# Altium footprint library MAX2623EUA+T.PcbLib: 1 footprints
Each footprint in its own frame and in the unit in brackets; x right, y up, seen from the top. Pads: shape width x height; smd on the part's side, far side on the other; paste and mask are expansions set on the pad; w line width, h text height; cw(c..) or ccw(c..) is an arc to the next point about the centre after c.
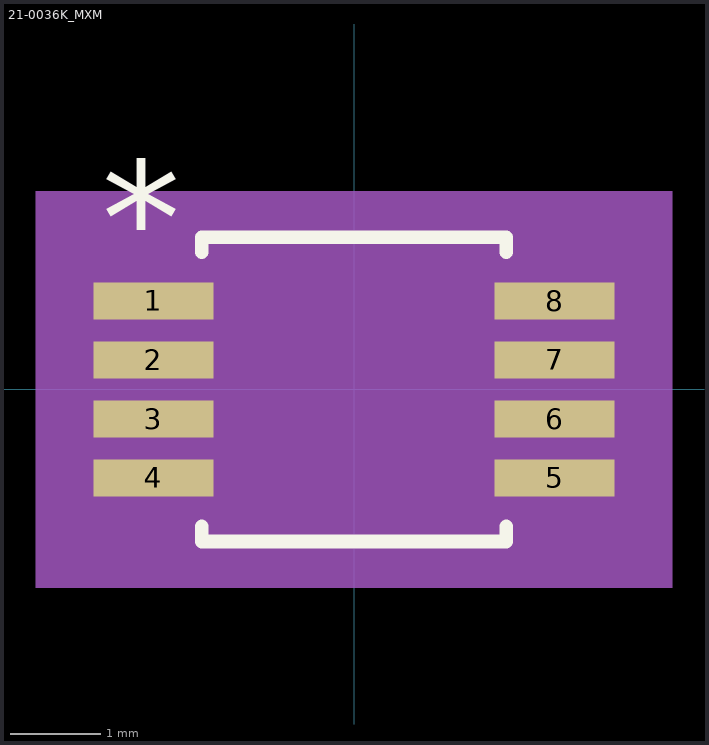
[diagram p0: the footprint, top view; thin cyan lines are the x and y axes]

## 21-0036K_MXM [mil]
pads (8):
  rect 52x16 smd paste+0 mask+0: 1(-87,38.4) 2(-87,12.8) 3(-87,-12.8) 4(-87,-38.4) 5(87,-38.4) 6(87,-12.8) 7(87,12.8) 8(87,38.4)
Top Overlay:
  lines w6: -66,-59.5 -66,-66 66,-66 66,-59.5 ; -66,59.5 -66,66 66,66 66,59.5
  text "*" at -109.5,49.4 h50
Mechanical 5:
  region: 138,-86 -138,-86 -138,86 138,86
Mechanical 13:
  lines w0: -12,61 ccw(c0,61) 12,61
  lines w1: -99,-45.4 -61,-45.4 -61,-31.4 -99,-31.4 -99,-45.4 ; -99,-19.8 -61,-19.8 -61,-5.8 -99,-5.8 -99,-19.8 ; -99,5.8 -61,5.8 -61,19.8 -99,19.8 -99,5.8 ; -99,31.4 -61,31.4 -61,45.4 -99,45.4 -99,31.4 ; -61,-61 -61,61 61,61 61,-61 -61,-61 ; 61,-45.4 99,-45.4 99,-31.4 61,-31.4 61,-45.4 ; 61,-19.8 99,-19.8 99,-5.8 61,-5.8 61,-19.8 ; 61,5.8 99,5.8 99,19.8 61,19.8 61,5.8 ; 61,31.4 99,31.4 99,45.4 61,45.4 61,31.4
  text "*" at -58.5,8 h50
Mechanical 15:
  region: -71,-56.4 -123,-56.4 -123,56.4 -71,56.4 -71,71 71,71 71,56.4 123,56.4 123,-56.4 71,-56.4 71,-71 -71,-71
  lines w6: -123,-56.4 -71,-56.4 -71,-71 71,-71 71,-56.4 123,-56.4 123,56.4 71,56.4 71,71 -71,71 -71,56.4 -123,56.4 -123,-56.4
3D body: height 10, standoff 0, extent 0,0 10,10